# EAGLE library part SPH-16 (library ic)
SPH-16 Phase shifter 13-16MHz (Mini-Circuits) 0-180° phase shift, 0dBm (225mV) input 0-7V control voltage, 50kHz control bandwidth
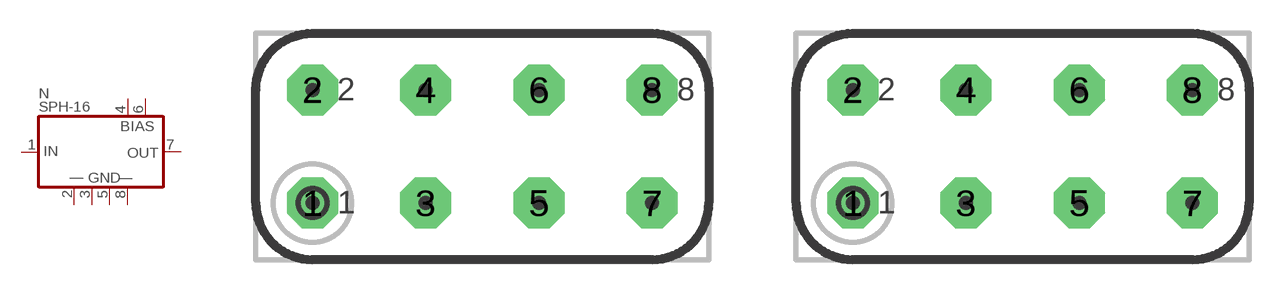
[diagram p52: symbol with the pads of MC-A01N; footprints MC-A01N, MC-A01G]

Designator prefix N

## SPH-16  [MC-A01N]
1  IN
2  GND  pwr
3  GND  pwr
4  BIAS  in
5  GND  pwr
6  BIAS  in
7  OUT
8  GND  pwr

## SPH-16G  [MC-A01G]
Pads as for MC-A01N

## Footprint MC-A01N (pad centres in mm)
Mini-Circuits A01 Metal case (20*10mm), 8 pins, Broken top plane
drill 0.991 pad 2.286 octagon: 1 -7.62,-2.54; 2 -7.62,2.54; 3 -2.54,-2.54; 4 -2.54,2.54; 5 2.54,-2.54; 6 2.54,2.54; 7 7.62,-2.54; 8 7.62,2.54

## Footprint MC-A01G (pad centres in mm)
Mini-Circuits A01 Metal case (20*10mm), 8 pins
drill 0.991 pad 2.286 octagon: 1 -7.62,-2.54; 2 -7.62,2.54; 3 -2.54,-2.54; 4 -2.54,2.54; 5 2.54,-2.54; 6 2.54,2.54; 7 7.62,-2.54; 8 7.62,2.54